# EAGLE library part AD8646 (library ds_ic_opa)
24 MHz Rail-to-Rail Amplifiers with Shutdown Option
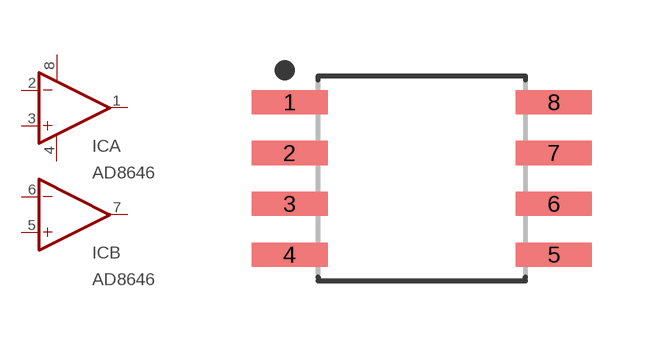
[diagram p2: symbol with the pads of SOIC127P770X170-8N; footprint SOIC127P770X170-8N]

Designator prefix IC; gates A=OPA_PWR B=OPA

## AD8646SO8  [SOIC127P770X170-8N]
1  A:OUT  out
2  A:-IN  in
3  A:+IN  in
4  A:V-  pwr
5  B:+IN  in
6  B:-IN  in
7  B:OUT  out
8  A:V+  pwr

## Footprint SOIC127P770X170-8N (pad centres in mm)
8-SOIC, 1.27 mm pitch, 7.70 mm span, 5.13 X 5.18 X 1.70 mm body 8-pin SOIC package with 1.27 mm pitch, 7.70 mm span with body size 5.13 X 5.18 X 1.70 mm
smd 1.901 x 0.602: 1 -3.305,1.905; 2 -3.305,0.635; 3 -3.305,-0.635; 4 -3.305,-1.905; 5 3.305,-1.905; 6 3.305,-0.635; 7 3.305,0.635; 8 3.305,1.905